# Altium integrated library ESP8266.IntLib: 8 symbols
Pins are listed as number, name and electrical type; pins without a type are passive.

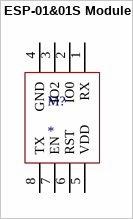
[diagram p0: symbol ESP-01&01S Module]

## ESP-01&01S Module
designator M?
footprint ESP-01&01S Module
pins: 1 RX, 2 IO0, 3 IO2, 4 GND, 5 VDD, 6 RST, 7 EN, 8 TX


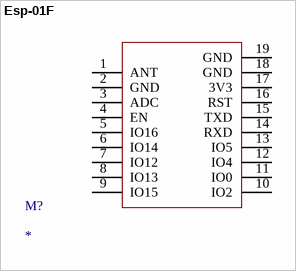
[diagram p1: symbol Esp-01F]

## Esp-01F
designator M?
footprint Esp-01F
pins: 1 ANT, 2 GND, 3 ADC, 4 EN, 5 IO16, 6 IO14, 7 IO12, 8 IO13, 9 IO15, 10 IO2, 11 IO0, 12 IO4, 13 IO5, 14 RXD, 15 TXD, 16 RST, 17 3V3, 18 GND, 19 GND


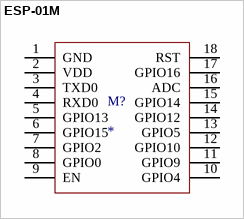
[diagram p2: symbol ESP-01M]

## ESP-01M
designator M?
footprint ESP-01M
pins: 1 GND, 2 VDD, 3 TXD0, 4 RXD0, 5 GPIO13, 6 GPIO15, 7 GPIO2, 8 GPIO0, 9 EN, 10 GPIO4, 11 GPIO9, 12 GPIO10, 13 GPIO5, 14 GPIO12, 15 GPIO14, 16 ADC, 17 GPIO16, 18 RST


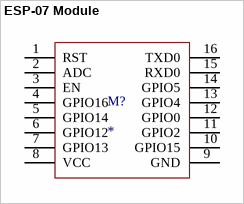
[diagram p3: symbol ESP-07 Module]

## ESP-07 Module
designator M?
ESP-07 Module
footprint ESP-07 Module
pins: 1 RST, 2 ADC, 3 EN, 4 GPIO16, 5 GPIO14, 6 GPIO12, 7 GPIO13, 8 VCC, 9 GND, 10 GPIO15, 11 GPIO2, 12 GPIO0, 13 GPIO4, 14 GPIO5, 15 RXD0, 16 TXD0


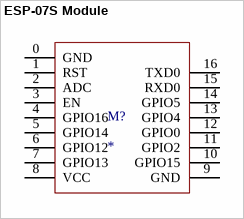
[diagram p4: symbol ESP-07S Module]

## ESP-07S Module
designator M?
ESP-07S Module
footprint ESP-07S Module
pins: 0 GND, 1 RST, 2 ADC, 3 EN, 4 GPIO16, 5 GPIO14, 6 GPIO12, 7 GPIO13, 8 VCC, 9 GND, 10 GPIO15, 11 GPIO2, 12 GPIO0, 13 GPIO4, 14 GPIO5, 15 RXD0, 16 TXD0


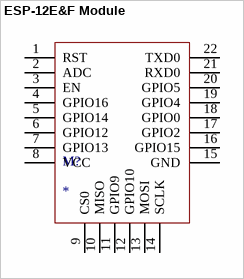
[diagram p5: symbol ESP-12E&F Module]

## ESP-12E&F Module
designator M?
ESP-12E&F Module
footprint ESP-12E&F Module
pins: 1 RST, 2 ADC, 3 EN, 4 GPIO16, 5 GPIO14, 6 GPIO12, 7 GPIO13, 8 VCC, 9 CS0, 10 MISO, 11 GPIO9, 12 GPIO10, 13 MOSI, 14 SCLK, 15 GND, 16 GPIO15, 17 GPIO2, 18 GPIO0, 19 GPIO4, 20 GPIO5, 21 RXD0, 22 TXD0


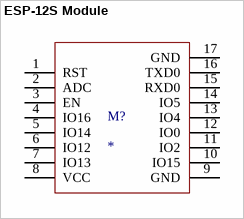
[diagram p6: symbol ESP-12S Module]

## ESP-12S Module
designator M?
ESP-12S Module
footprint ESP-12S Module
pins: 1 RST, 2 ADC, 3 EN, 4 IO16, 5 IO14, 6 IO12, 7 IO13, 8 VCC, 9 GND, 10 IO15, 11 IO2, 12 IO0, 13 IO4, 14 IO5, 15 RXD0, 16 TXD0, 17 GND


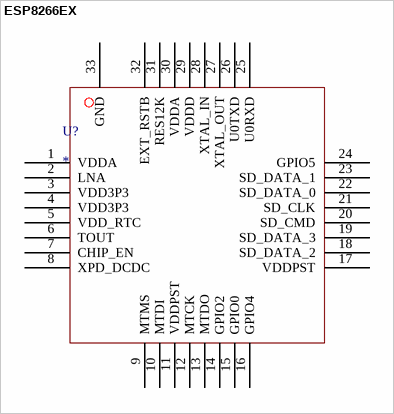
[diagram p7: symbol ESP8266EX]

## ESP8266EX
designator U?
footprint ESP8266EX(QFN50P500X500X90_HS-33N) (QFN, 32-Leads, Body 5.00x5.00mm, Pitch 0.50mm, Thermal Pad 3.70x3.70mm, IPC Medium Density)
pins: 1 VDDA, 2 LNA, 3 VDD3P3, 4 VDD3P3, 5 VDD_RTC, 6 TOUT, 7 CHIP_EN, 8 XPD_DCDC, 9 MTMS, 10 MTDI, 11 VDDPST, 12 MTCK, 13 MTDO, 14 GPIO2, 15 GPIO0, 16 GPIO4, 17 VDDPST, 18 SD_DATA_2, 19 SD_DATA_3, 20 SD_CMD, 21 SD_CLK, 22 SD_DATA_0, 23 SD_DATA_1, 24 GPIO5, 25 U0RXD, 26 U0TXD, 27 XTAL_OUT, 28 XTAL_IN, 29 VDDD, 30 VDDA, 31 RES12K, 32 EXT_RSTB, 33 GND